# Altium integrated library microUSB.IntLib: 2 symbols
Pins are listed as number, name and electrical type; pins without a type are passive.

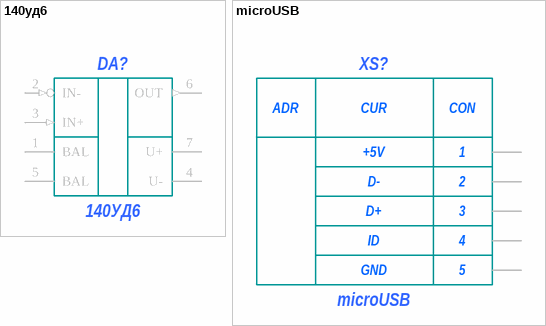
[diagram p0: symbols 140уд6 to microUSB]

## 140уд6
designator DA?, comment 140УД6
footprint 140УД6
pins: 1 BAL, 2 IN- (in), 3 IN+ (in), 4 U- (power), 5 BAL, 6 OUT (out), 7 U+ (power)

## microUSB
designator XS?
footprint microUSB
pins: 1 4 (power), 2 5, 3 6, 4 7, 5 8 (power)
text: ADR; CUR; CON; +5V; D-; D+; ID; GND